# Altium schematic symbol library TCLT1006.Schlib: 1 symbol
Pins are listed as number, name and electrical type; pins without a type are passive.

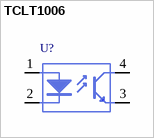
[diagram p0: symbol TCLT1006]

## TCLT1006
designator U?  (value not drawn)
Optoisolator
pins: 1 A, 2 K, 3 E, 4 C